# Altium schematic symbol library Opto-Isolator,Triac Output,5kV,Thru.Schlib: 1 symbol
Pins are listed as number, name and electrical type; pins without a type are passive.

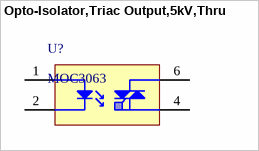
[diagram p0: symbol Opto-Isolator,Triac Output,5kV,Thru]

## Opto-Isolator,Triac Output,5kV,Thru
designator U?, comment MOC3063
Optoisolator Triac Output 5000Vrms 1 Channel 6-DIP
pins: 1 A, 2 C, 4 MT1, 6 MT2